# Altium footprint library LABLIB.PcbLib: 244 footprints (part 14 of 17)
Each footprint in its own frame and in the unit in brackets; x right, y up, seen from the top. Pads: shape width x height; smd on the part's side, far side on the other; paste and mask are expansions set on the pad; w line width, h text height; cw(c..) or ccw(c..) is an arc to the next point about the centre after c.
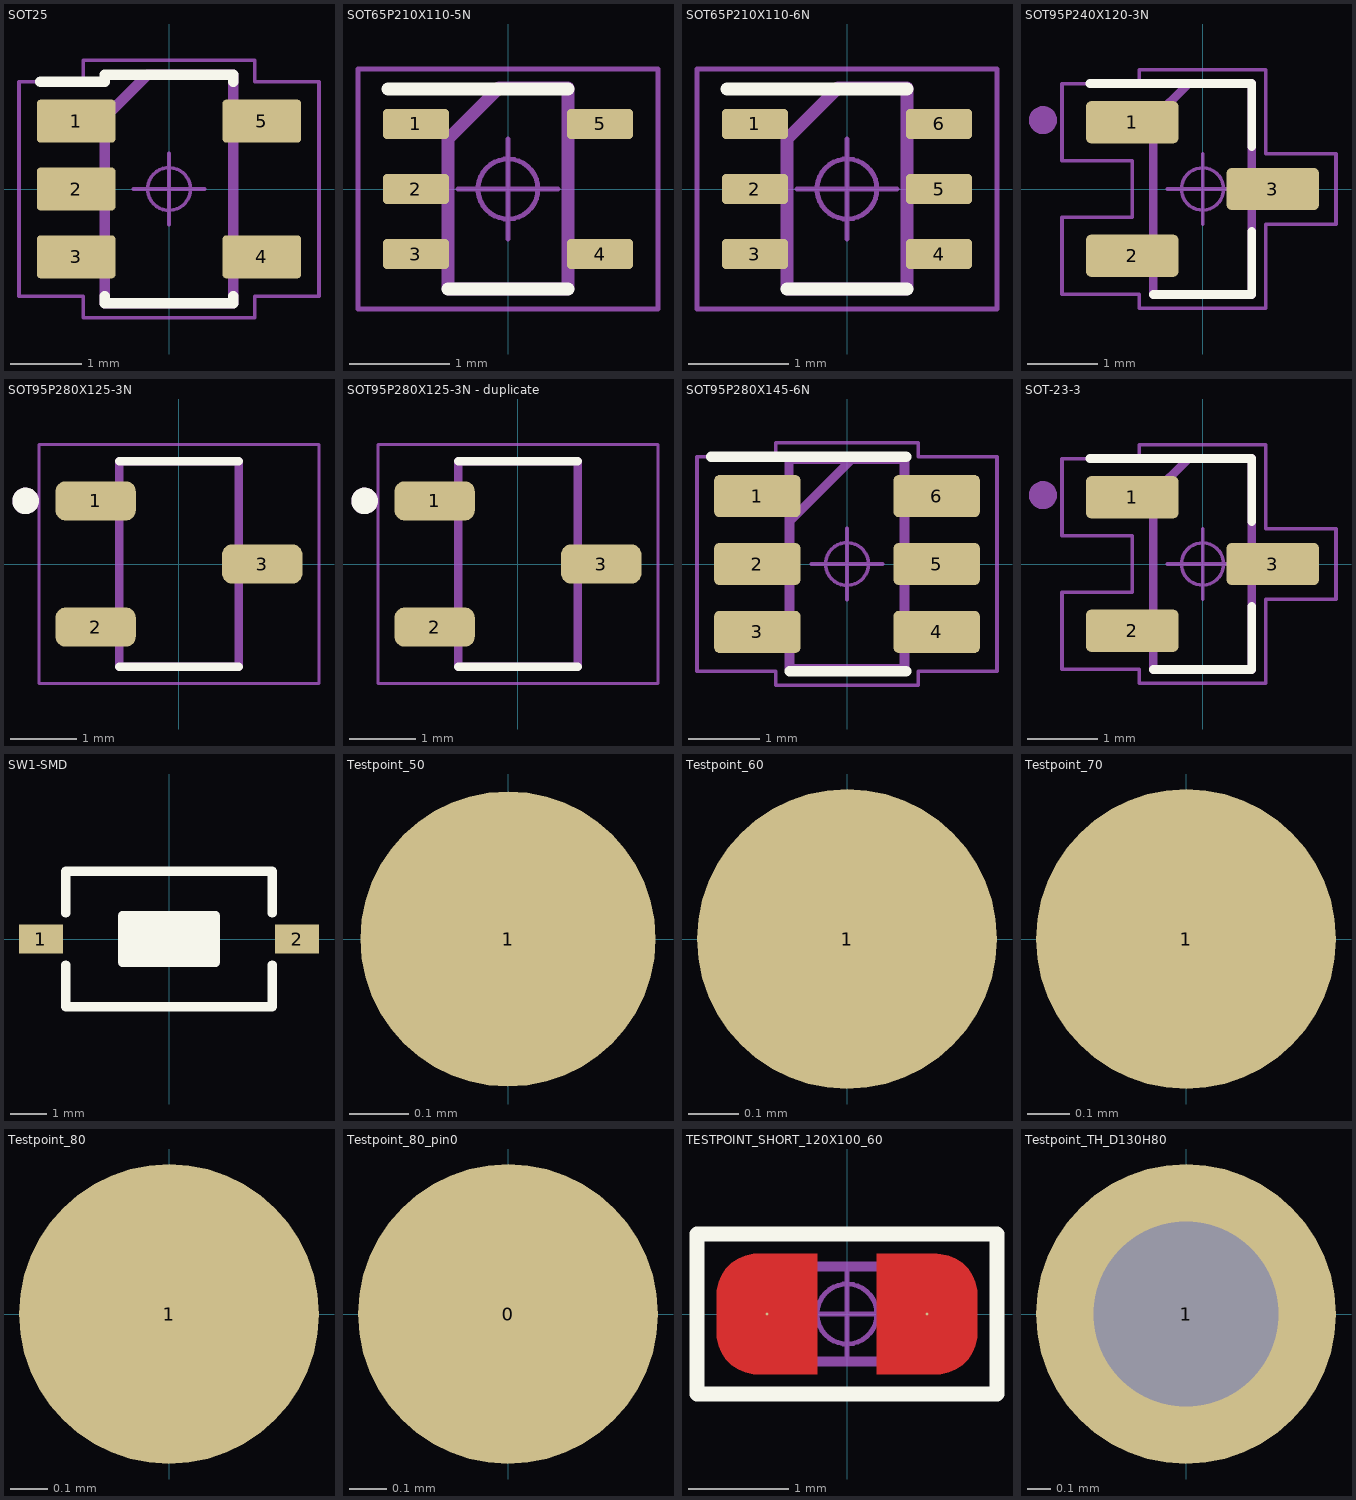
[diagram p13: the footprints below, top view; thin cyan lines are the x and y axes]

## SOT25 [mm]
pads (5):
  rrect16% 1.1x0.6 smd paste+0 mask+0: 1(-1.3,0.95) 2(-1.3,0) 3(-1.3,-0.95) 4(1.3,-0.95) 5(1.3,0.95)
Top Overlay:
  lines w0.15: -1.8,1.5 -0.9,1.5 -0.9,1.6 0.9,1.6 0.9,1.5 ; -0.9,-1.5 -0.9,-1.6 0.9,-1.6 0.9,-1.5
Top Assembly:
  lines w0.15: -0.9,-1.6 -0.9,1 -0.3,1.6 0.9,1.6 0.9,-1.6 -0.9,-1.6
  text "'.Designator'" at 0.663,-4.217 h1.6
Top Courtyard:
  lines w0.05: -2.1,-1.5 -1.2,-1.5 -1.2,-1.8 1.2,-1.8 1.2,-1.5 2.1,-1.5 2.1,1.5 1.2,1.5 1.2,1.7 1.2,1.8 -1.1,1.8 -1.2,1.8 -1.2,1.5 -2.1,1.5 -2.1,-1.5
Top Component Outline:
  rectangle: -1.5,0.7 -0.9,1.2
  region: 1.5,1.2 0.9,1.2 0.9,0.7 1.5,0.7
  region: 1.5,-0.7 0.9,-0.7 0.9,-1.2 1.5,-1.2
  rectangle: -1.5,-1.2 -0.9,-0.7
  rectangle: -1.5,-0.25 -0.9,0.25
Top Component Center:
  circle w0.05: c0,0 r0.3
  lines w0.05: -0.5,0 0.5,0 ; 0,-0.5 0,0.5
3D body "AP7366-W5-7.step": height 1.4, standoff 0, extent -1.425,-1.5 1.425,1.5

## SOT65P210X110-5N [mm]
pads (5):
  rrect25% 0.66x0.3 smd: 1(-0.92,0.65) 2(-0.92,0) 3(-0.92,-0.65) 4(0.92,-0.65) 5(0.92,0.65)
Top Overlay:
  lines w0.127: -1.2,1 0.6,1 ; -0.6,-1 0.6,-1
Top Assembly:
  lines w0.127: -0.6,-1 -0.6,0.5 -0.091,1.009 0.6,1.009 0.6,-1 -0.6,-1
  text "'.Designator'" at -3.952,-0.624 h1.5
Top Courtyard:
  lines w0.05: -1.5,-1.2 -1.5,1.2 1.5,1.2 1.5,-1.2 -1.5,-1.2
Top Component Center:
  circle w0.05: c0,0 r0.3
  lines w0.05: -0.5,0 0.5,0 ; 0,-0.5 0,0.5
3D body "step_temp.STEP": height 1.1, standoff 0, extent -1.05,-1 1.05,1

## SOT65P210X110-6N [mm]
pads (6):
  rrect25% 0.66x0.3 smd: 1(-0.92,0.65) 2(-0.92,0) 3(-0.92,-0.65) 4(0.92,-0.65) 5(0.92,0) 6(0.92,0.65)
Top Overlay:
  lines w0.127: -1.2,1 0.6,1 ; -0.6,-1 0.6,-1
Top Assembly:
  lines w0.127: -0.6,-1 -0.6,0.5 -0.091,1.009 0.6,1.009 0.6,-1 -0.6,-1
  text "'.Designator'" at -3.952,-0.624 h1.5
Top Courtyard:
  lines w0.05: -1.5,-1.2 -1.5,1.2 1.5,1.2 1.5,-1.2 -1.5,-1.2
Top Component Center:
  circle w0.05: c0,0 r0.3
  lines w0.05: -0.5,0 0.5,0 ; 0,-0.5 0,0.5
3D body "User Library-SC88-6.step": height 1.1, standoff 0, extent -1.1,-1 1.1,1

## SOT95P240X120-3N [mm]
height 1.2
pads (3):
  rrect25% 1.32x0.6 smd: 1(-1,0.95) 2(-1,-0.95) 3(1,0)
Top Overlay:
  lines w0.125: -1.6,1.5 0.6,1.5 0.7,1.5 0.7,0.6 ; -0.7,-1.5 0.7,-1.5 0.7,-0.6
Top Assembly:
  lines w0.125: -0.7,-1.5 0.7,-1.5 0.7,1.5 -0.2,1.5 -0.7,1 -0.7,-1.5
  text "'.Designator'" at -3.952,-0.622 h1.5
Top Courtyard:
  lines w0.05: -2,-1.5 -2,-0.4 -1,-0.4 -1,0.4 -2,0.4 -2,1.5 -0.9,1.5 -0.9,1.7 0.9,1.7 0.9,0.5 1.9,0.5 1.9,-0.5 0.9,-0.5 0.9,-1.7 -0.9,-1.7 -0.9,-1.5 -2,-1.5
Top Component Center:
  circle w0.05: c0,0 r0.3
  lines w0.05: -0.5,0 0.5,0 ; 0,-0.5 0,0.5
Mechanical 13:
  circle w0.2: c-2.27,0.98 r0.1
3D body "step_temp.STEP": height 1.2, standoff -0.1, extent -1.3,-1.52 1.3,1.52

## SOT95P280X125-3N [mm]
height 1.25
pads (3):
  rrect50% 1.21x0.59 smd: 1(-1.255,0.95) 2(-1.255,-0.95) 3(1.255,0)
Top Overlay:
  circle w0.2: c-2.31,0.95 r0.1
  lines w0.127: -0.9,-1.55 0.9,-1.55 ; -0.9,1.55 0.9,1.55
Mechanical 13:
  circle w0.2: c-2.31,0.95 r0.1
  lines w0.127: -0.9,-1.55 0.9,-1.55 0.9,1.55 -0.9,1.55 -0.9,-1.55
Mechanical 15:
  lines w0.05: -2.11,-1.8 2.11,-1.8 2.11,1.8 -2.11,1.8 -2.11,-1.8
3D body "step_temp.STEP": height 1.25, standoff 0, extent -1.4,-1.45 1.4,1.45

## SOT95P280X125-3N - duplicate [mm]
height 1.25
pads (3):
  rrect50% 1.21x0.59 smd: 1(-1.255,0.95) 2(-1.255,-0.95) 3(1.255,0)
Top Overlay:
  circle w0.2: c-2.31,0.95 r0.1
  lines w0.127: -0.9,-1.55 0.9,-1.55 ; -0.9,1.55 0.9,1.55
Mechanical 13:
  circle w0.2: c-2.31,0.95 r0.1
  lines w0.127: -0.9,-1.55 -0.9,1.55 0.9,1.55 0.9,-1.55 -0.9,-1.55
Mechanical 15:
  lines w0.05: -2.11,-1.8 -2.11,1.8 2.11,1.8 2.11,-1.8 -2.11,-1.8
3D body "step_temp.STEP": height 1.25, standoff 0, extent -1.4,-1.45 1.4,1.45

## SOT95P280X145-6N [mm]
pads (6):
  rrect25% 1.21x0.59 smd: 1(-1.255,0.95) 2(-1.255,0) 3(-1.255,-0.95) 4(1.255,-0.95) 5(1.255,0) 6(1.255,0.95)
Top Overlay:
  lines w0.15: -1.9,1.5 0.825,1.5 ; -0.8,-1.5 0.825,-1.5
Top Assembly:
  lines w0.125: -0.8,-1.5 0.8,-1.5 0.8,1.5 0.1,1.5 -0.8,0.6 -0.8,-1.5
  text "'.Designator'" at -3.952,-0.622 h1.5
Top Courtyard:
  lines w0.05: -2.1,-1.5 -1,-1.5 -1,-1.7 1,-1.7 1,-1.5 2.1,-1.5 2.1,1.5 1,1.5 1,1.7 -1,1.7 -1,1.5 -2.1,1.5 -2.1,1.3 -2.1,-1.5
Top Component Center:
  circle w0.05: c0,0 r0.3
  lines w0.05: -0.5,0 0.5,0 ; 0,-0.5 0,0.5
Mechanical 13:
  lines w0.127: -0.813,-1.462 -0.813,1.462 0.813,1.462 0.813,-1.462 -0.813,-1.462
3D body "step_temp.STEP": height 1.4, standoff -0.05, extent -1.4,-1.462 1.4,1.462

## SOT-23-3 [mm]
height 2.6
pads (3):
  rrect25% 1.32x0.6 smd: 1(-1,0.95) 2(-1,-0.95) 3(1,0)
Top Overlay:
  lines w0.125: -1.6,1.5 0.6,1.5 0.7,1.5 0.7,0.6 ; -0.7,-1.5 0.7,-1.5 0.7,-0.6
Top Assembly:
  lines w0.125: -0.7,-1.5 -0.7,1 -0.2,1.5 0.7,1.5 0.7,-1.5 -0.7,-1.5
  text "'.Designator'" at -3.952,-0.622 h1.5
Top Courtyard:
  lines w0.05: -2,-1.5 -0.9,-1.5 -0.9,-1.7 0.9,-1.7 0.9,-0.5 1.9,-0.5 1.9,0.5 0.9,0.5 0.9,1.7 -0.9,1.7 -0.9,1.5 -2,1.5 -2,0.4 -1,0.4 -1,-0.4 -2,-0.4 -2,-1.5
Top Component Center:
  circle w0.05: c0,0 r0.3
  lines w0.05: -0.5,0 0.5,0 ; 0,-0.5 0,0.5
Mechanical 13:
  circle w0.2: c-2.27,0.98 r0.1
3D body "step_temp.STEP": height 1.2, standoff -0.1, extent -1.3,-1.52 1.3,1.52

## SW1-SMD [mm]
pads (2):
  rect 1.2x0.8 smd: 1(-3.5,0) 2(3.5,0)
Top Overlay:
  rectangle: -1.27,-0.635 1.27,0.635
  lines w0.254: -2.819,-0.711 -2.819,-1.854 2.819,-1.854 2.819,-0.711 ; -2.819,0.711 -2.819,1.854 2.819,1.854 2.819,0.711 ; -1.27,-0.635 1.27,-0.635 1.27,0.635 -1.27,0.635 -1.27,-0.635
3D body "User Library-Button-SMD.step": height 2.5, standoff 0, extent -3.05,-1.85 3.05,1.85

## Testpoint_50 [mm]
pads (1):
  round 0.5 smd paste-2539.97 mask+0: 1(0,0)

## Testpoint_60 [mm]
pads (1):
  round 0.6 smd paste-2539.97 mask+0: 1(0,0)

## Testpoint_70 [mm]
pads (1):
  round 0.7 smd paste-2539.97 mask+0: 1(0,0)

## Testpoint_80 [mm]
pads (1):
  round 0.8 smd paste-2539.97 mask+0: 1(0,0)

## Testpoint_80_pin0 [mm]
pads (1):
  round 0.8 smd paste-2539.97 mask+0: 0(0,0)

## TESTPOINT_SHORT_120X100_60 [mil] "Chip Resistor, 2-Leads, Body 1.63x0.83mm, IPC High Density"
height 23.62
pads (2):
  round 1 smd paste-99999 mask+1.97: 1(-31.5,0) 2(31.5,0)
Top Layer:
  region: 51.18,-7.87 51.18,-9.43 50.58,-12.47 49.39,-15.33 47.67,-17.91 45.47,-20.11 42.89,-21.83 40.03,-23.02 36.98,-23.62 35.43,-23.62 11.81,-23.62 11.81,23.62 35.43,23.62 36.98,23.62 40.03,23.02 42.89,21.83 45.47,20.11 47.67,17.91 49.39,15.33 50.58,12.47 51.18,9.43 51.18,7.87
  region: -11.81,23.62 -11.81,-23.62 -35.43,-23.62 -36.98,-23.62 -40.03,-23.02 -42.89,-21.83 -45.47,-20.11 -47.67,-17.91 -49.39,-15.33 -50.58,-12.47 -51.18,-9.43 -51.18,-7.87 -51.18,7.87 -51.18,9.43 -50.58,12.47 -49.39,15.33 -47.67,17.91 -45.47,20.11 -42.89,21.83 -40.03,23.02 -36.98,23.62 -35.43,23.62
Top Overlay:
  lines w5.91: -59.06,-31.5 59.06,-31.5 59.06,31.5 -59.06,31.5 -59.06,-31.5
Top Assembly:
  lines w3.94: -34.45,-18.7 34.45,-18.7 34.45,18.7 -34.45,18.7 -34.45,-18.7
  text "'.Designator'" at -166.01,-26.12 h62.99
Top Courtyard:
  lines w1.97: -59.06,-31.5 59.06,-31.5 59.06,31.5 -59.06,31.5 -59.06,-31.5
Top Component Center:
  circle w1.97: c0,0 r11.81
  lines w1.97: -19.68,0 19.68,0 ; 0,-19.68 0,19.68
3D body: height 0.39, standoff 0, extent -17.72,-7.87 17.72,7.87

## Testpoint_TH_D130H80 [mm]
pads (1):
  round 1.3 hole 0.8 paste-2539.97 mask+0: 1(0,0)